# Altium footprint library WL-SMCD.PcbLib: 1 footprints
Each footprint in its own frame and in the unit in brackets; x right, y up, seen from the top. Pads: shape width x height; smd on the part's side, far side on the other; paste and mask are expansions set on the pad; w line width, h text height; cw(c..) or ccw(c..) is an arc to the next point about the centre after c.
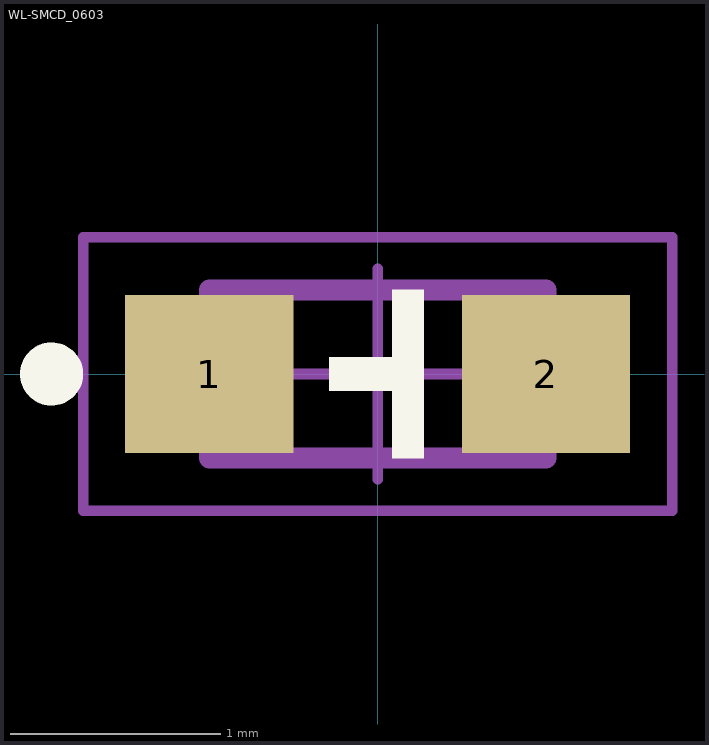
[diagram p0: the footprint, top view; thin cyan lines are the x and y axes]

## WL-SMCD_0603 [mm] "SMD Mono-color Chip LED, body 1.6x0.8mm"
height 0.4
pads (2):
  rect 0.8x0.75 smd: 1(-0.8,0) 2(0.8,0)
Top Overlay:
  circle w0.15: c-1.55,0 r0.075
  region: 0.22,0.4 0.22,-0.4 0.07,-0.4 0.07,-0.08 -0.23,-0.08 -0.23,0.08 0.07,0.08 0.07,0.4
Top Designator:
  text ".Designator" at -2.499,-0.167 h0.5
Top Component Outline:
  region: 0.22,0.4 0.22,-0.4 0.07,-0.4 0.07,-0.08 -0.23,-0.08 -0.23,0.08 0.07,0.08 0.07,0.4
  lines w0.1: -0.8,-0.4 0.8,-0.4 0.8,0.4 -0.8,0.4 -0.8,-0.4
Top Courtyard:
  lines w0.05: -1.4,-0.65 1.4,-0.65 1.4,0.65 -1.4,0.65 -1.4,-0.65
Top Component Center:
  lines w0.05: -0.5,0 0.5,0 ; 0,-0.5 0,0.5
3D body "STEP-WL-SMCD-0603-rev1.stp": height 0.42, standoff 0.02, extent -0.8,-0.4 0.8,0.4